# Altium schematic symbol library LP5907MFX-3P3&slash_NOPB.SchLib: 2 symbols
Pins are listed as number, name and electrical type; pins without a type are passive.

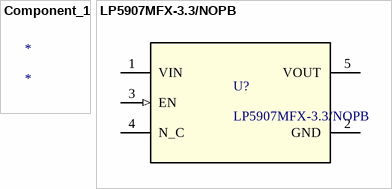
[diagram p0: symbols Component_1 to LP5907MFX-3.3/NOPB]

## Component_1
designator *

## LP5907MFX-3.3/NOPB
designator U?
No Description Available; Mfr_Name: Texas Instruments; Type: DEV; RefDes: RefDes; Copyright: Copyright (C) 2022 Ultra Librarian. All rights reserved.; Manufacturer_Part_Number: LP5907MFX-3.3/NOPB
footprint DBV0005A_N
pins: 1 VIN (power), 2 GND (power), 3 EN (in), 4 N_C, 5 VOUT (power)